# Altium schematic symbol library MCP2551-I_P.SchLib: 1 symbol
Pins are listed as number, name and electrical type; pins without a type are passive.

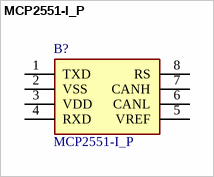
[diagram p0: symbol MCP2551-I_P]

## MCP2551-I_P
designator B?
High Speed CAN Transceiver,MCP2551-I/P Microchip MCP2551-I/P, CAN Transceiver 1-channel ISO 11898, 8-Pin PDIP; Allied_Number: 70045402; Geometry.Height: 4.32mm; RS Part Number: 0402920; RS Price/Stock: http://uk.rs-online.com/web/p/products/0402920; Manufacturer_Name: Microchip; Manufacturer_Part_Number: MCP2551-I/P; Datasheet Link: http://uk.rs-online.com/web/p/products/0402920
footprint DIP794W56P254L946H432Q8N
pins: 1 TXD, 2 VSS, 3 VDD, 4 RXD, 5 VREF, 6 CANL, 7 CANH, 8 RS